# EAGLE library part AOZ1015 (library ao-regulator)
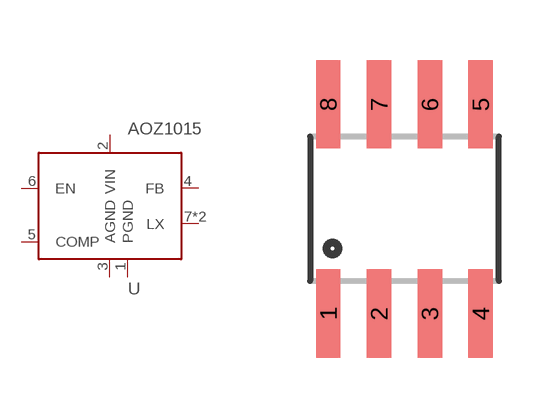
[diagram p0: symbol with the pads of SO-8L; footprint SO-8L]

Designator prefix -

## AOZ1015  [SO-8L]
1  PGND
2  VIN
3  AGND
4  FB
5  COMP
6  EN
7  LX
8  LX

## Footprint SO-8L (pad centres in mm)
smd 0.61 x 2.21: 1 -1.905,-2.616; 2 -0.635,-2.616; 3 0.635,-2.616; 4 1.905,-2.616; 5 1.905,2.616; 6 0.635,2.616; 7 -0.635,2.616; 8 -1.905,2.616